# Altium footprint library 16Z.PcbLib: 42 footprints (part 3 of 3)
Each footprint in its own frame and in the unit in brackets; x right, y up, seen from the top. Pads: shape width x height; smd on the part's side, far side on the other; paste and mask are expansions set on the pad; w line width, h text height; cw(c..) or ccw(c..) is an arc to the next point about the centre after c.
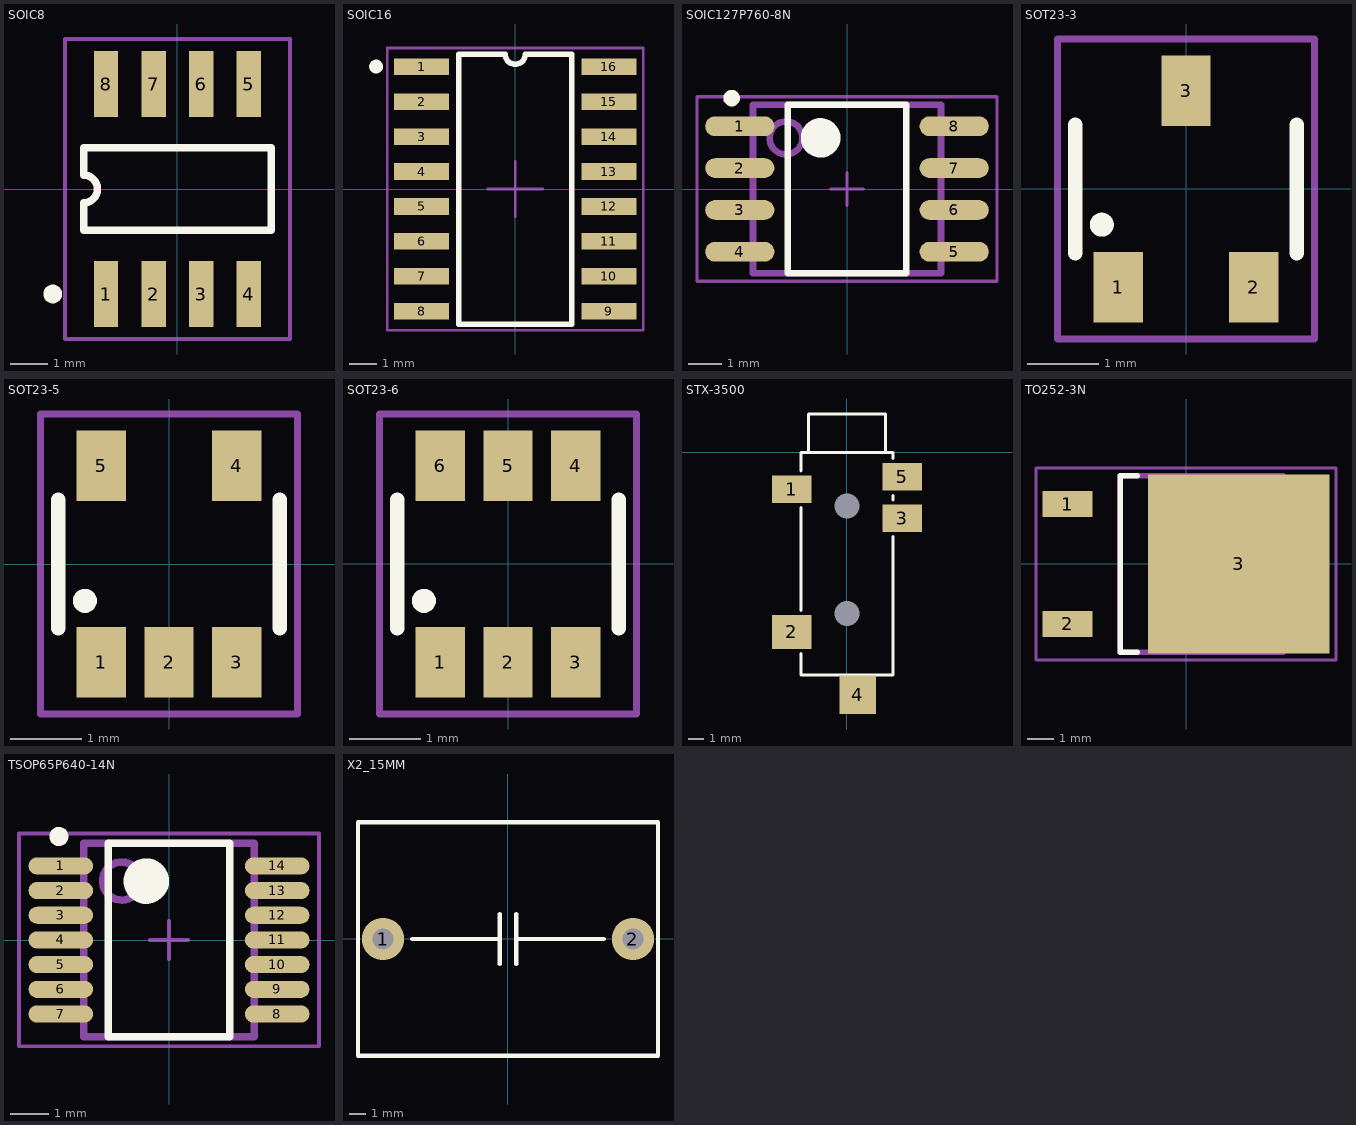
[diagram p2: the footprints below, top view; thin cyan lines are the x and y axes]

## SOIC8 [mm] "SOIC8 Package"
height 1.753
pads (8):
  rect 0.65x1.75 smd: 1(-1.905,-2.8) 2(-0.635,-2.8) 3(0.635,-2.8) 4(1.905,-2.8) 5(1.905,2.8) 6(0.635,2.8) 7(-0.635,2.8) 8(-1.905,2.8)
Top Overlay:
  circle w0.25: c-3.325,-2.8 r0.125
  lines w0.2: -2.5,-0.367 -2.5,-1.1 2.5,-1.1 2.5,1.1 -2.5,1.1 -2.5,0.367 ; -2.5,-0.367 ccw(c-2.5,0) -2.5,0.367
Mechanical 15:
  lines w0.102: -3,-4 3,-4 3,4 -3,4 -3,-4
3D body: height 1.75, standoff 0, extent -2.5,-2 2.5,2

## SOIC16 [mm] "SOIC16 Package"
height 1.041
pads (16):
  rect 2x0.6 smd: 1(-3.4,4.45) 2(-3.4,3.18) 3(-3.4,1.91) 4(-3.4,0.64) 5(-3.4,-0.63) 6(-3.4,-1.9) 7(-3.4,-3.17) 8(-3.4,-4.44) 9(3.4,-4.44) 10(3.4,-3.17) 11(3.4,-1.9) 12(3.4,-0.63) 13(3.4,0.64) 14(3.4,1.91) 15(3.4,3.18) 16(3.4,4.45)
Top Overlay:
  circle w0.25: c-5.05,4.45 r0.125
  lines w0.2: -0.375,4.9 -2.05,4.9 -2.05,-4.9 2.05,-4.9 2.05,4.9 0.375,4.9 ; -0.367,4.9 ccw(c0,4.9) 0.367,4.9
Mechanical 15:
  lines w0.1: -4.65,-5.125 -4.65,5.125 4.65,5.125 4.65,-5.125 -4.65,-5.125
  lines w0.102: -1,0 1,0 ; 0,-1 0,1
3D body: height 1.04, standoff 0, extent -2.5,-5 2.5,5

## SOIC127P760-8N [mm]
pads (8):
  oval 2.1x0.6 smd: 1(-3.252,1.91) 2(-3.252,0.64) 3(-3.252,-0.63) 4(-3.252,-1.9) 5(3.248,-1.9) 6(3.248,-0.63) 7(3.248,0.64) 8(3.248,1.91)
Top Overlay:
  circle w0.6: c-0.802,1.555 r0.3
  circle w0.25: c-3.502,2.76 r0.125
  lines w0.2: -1.802,-2.545 1.798,-2.545 1.798,2.555 -1.802,2.555 -1.802,-2.545
Mechanical 11:
  lines w0.001: -2.852,-2.545 2.848,-2.545 2.848,2.555 -2.852,2.555 -2.852,-2.545
Mechanical 13:
  circle w0.2: c-1.852,1.555 r0.5
  lines w0.2: -2.852,-2.545 2.848,-2.545 2.848,2.555 -2.852,2.555 -2.852,-2.545
Mechanical 15:
  lines w0.1: -0.502,0.005 0.498,0.005 ; -0.002,-0.495 -0.002,0.505 ; -4.552,-2.795 4.548,-2.795 4.548,2.805 -4.552,2.805 -4.552,-2.795
3D body: height 1.4, standoff 0, extent -2.852,-2.545 2.848,2.555

## SOT23-3 [mm] "SOT23-3 Package"
height 1.27
pads (3):
  rect 0.69x0.99 smd: 1(-0.95,-1.375) 2(0.95,-1.375) 3(0,1.375)
Top Overlay:
  lines w0.178: -1.102,-0.484 ccw(c-1.179,-0.5) -1.1,-0.5
  lines w0.2: -1.55,-0.9 -1.55,0.9 ; 1.55,-0.9 1.55,0.9
Mechanical 15:
  lines w0.102: -1.8,-2.1 1.8,-2.1 1.8,2.1 -1.8,2.1 -1.8,-2.1
3D body: height 1.3, standoff 0, extent -1.55,-0.9 1.55,0.9

## SOT23-5 [mm] "SOT23-5 Package"
height 1.27
pads (5):
  rect 0.69x0.99 smd: 1(-0.95,-1.375) 2(0,-1.375) 3(0.95,-1.375) 4(0.95,1.375) 5(-0.95,1.375)
Top Overlay:
  lines w0.178: -1.1,-0.5 ccw(c-1.177,-0.516) -1.098,-0.516
  lines w0.2: -1.55,-0.9 -1.55,0.9 ; 1.55,-0.9 1.55,0.9
Mechanical 15:
  lines w0.102: -1.8,-2.1 -1.8,2.1 1.8,2.1 1.8,-2.1 -1.8,-2.1
3D body: height 1.3, standoff 0, extent -1.55,-0.9 1.55,0.9

## SOT23-6 [mm] "SOT23-6 Package"
height 1.27
pads (6):
  rect 0.69x0.99 smd: 1(-0.95,-1.375) 2(0,-1.375) 3(0.95,-1.375) 4(0.95,1.375) 5(0,1.375) 6(-0.95,1.375)
Top Overlay:
  lines w0.178: -1.1,-0.5 ccw(c-1.177,-0.516) -1.098,-0.516
  lines w0.2: -1.55,-0.9 -1.55,0.9 ; 1.55,-0.9 1.55,0.9
Mechanical 15:
  lines w0.102: -1.8,-2.1 -1.8,2.1 1.8,2.1 1.8,-2.1 -1.8,-2.1
3D body: height 1.3, standoff 0, extent -1.55,-0.9 1.55,0.9

## STX-3500 [mm] "3.5mm stereo audio jack"
height 5
pads (7):
  rect 0x0 hole 1.65 unplated: 0(0,-10.5) 0(0,-3.5)
  rect 2.6x1.8 smd: 1(-3.6,-2.4) 3(3.6,-4.3) 5(3.6,-1.6)
  rect 2.6x2.2 smd: 2(-3.6,-11.7)
  rect 2.4x2.5 smd: 4(0.7,-15.8)
Top Overlay:
  lines w0.2: -3,-13.1 -3,-14.5 3,-14.5 3,-5.5 ; -3,-10.3 -3,-3.6 ; -3,-1.2 -3,0 -2.5,0 ; 3,-3.1 3,-2.8 ; 3,-0.4 3,0 2.5,0 ; -2.5,0 -2.5,2.5 2.5,2.5 2.5,0 ; -2.5,0 2.5,0
3D body: height 4.98, standoff 0, extent -2.495,0 2.495,2.5
3D body: height 4, standoff 0, extent -3,-14.5 3,0

## TO252-3N [mm]
pads (3):
  rect 1.9x1 smd: 1(-4.51,2.275) 2(-4.51,-2.285)
  rect 6.9x6.8 smd: 3(1.99,-0.005)
Top Overlay:
  lines w0.2: -1.86,-3.355 -2.51,-3.355 -2.51,3.345 -1.86,3.345
Mechanical 11:
  lines w0.001: -2.51,-3.355 3.69,-3.355 3.69,3.345 -2.51,3.345 -2.51,-3.355
Mechanical 13:
  lines w0.2: -2.51,-3.355 3.69,-3.355 3.69,3.345 -2.51,3.345 -2.51,-3.355
Mechanical 15:
  lines w0.1: -0.51,-0.005 0.49,-0.005 ; -0.01,-0.505 -0.01,0.495 ; -5.71,-3.655 5.69,-3.655 5.69,3.645 -5.71,3.645 -5.71,-3.655
3D body: height 1.6, standoff 0, extent -3.9,-3.4 3.69,3.345

## TSOP65P640-14N [mm]
pads (14):
  oval 1.7x0.45 smd: 1(-2.859,1.955) 2(-2.859,1.305) 3(-2.859,0.655) 4(-2.859,0.005) 5(-2.859,-0.645) 6(-2.859,-1.295) 7(-2.859,-1.945) 8(2.841,-1.945) 9(2.841,-1.295) 10(2.841,-0.645) 11(2.841,0.005) 12(2.841,0.655) 13(2.841,1.305) 14(2.841,1.955)
Top Overlay:
  circle w0.6: c-0.609,1.555 r0.3
  circle w0.25: c-2.909,2.73 r0.125
  lines w0.2: -1.609,-2.545 1.591,-2.545 1.591,2.555 -1.609,2.555 -1.609,-2.545
Mechanical 11:
  lines w0.001: -2.259,-2.545 2.241,-2.545 2.241,2.555 -2.259,2.555 -2.259,-2.545
Mechanical 13:
  circle w0.2: c-1.259,1.555 r0.5
  lines w0.2: -2.259,-2.545 2.241,-2.545 2.241,2.555 -2.259,2.555 -2.259,-2.545
Mechanical 15:
  lines w0.1: -0.509,0.005 0.491,0.005 ; -0.009,-0.495 -0.009,0.505 ; -3.959,-2.795 3.941,-2.795 3.941,2.805 -3.959,2.805 -3.959,-2.795
3D body: height 0.8, standoff 0, extent -2.259,-2.545 2.241,2.555

## X2_15MM [mm]
pads (2):
  round 2.54 hole 1.27: 1(-7.5,0) 2(7.5,0)
Top Overlay:
  lines w0.254: -5.75,0 -0.5,0 ; -0.5,-1.5 -0.5,1.5 ; 0.5,-1.5 0.5,1.5 ; 0.5,0 5.75,0 ; -9,-7 -9,0 -9,7 9,7 9,-7 -9,-7
3D body: height 14.4, standoff 0, extent -9,-7 9,7